# EAGLE library part DSPIC30F5011-20I/PTG (library Microchip_By_element14_Batch_1)
Digital Signal Controller
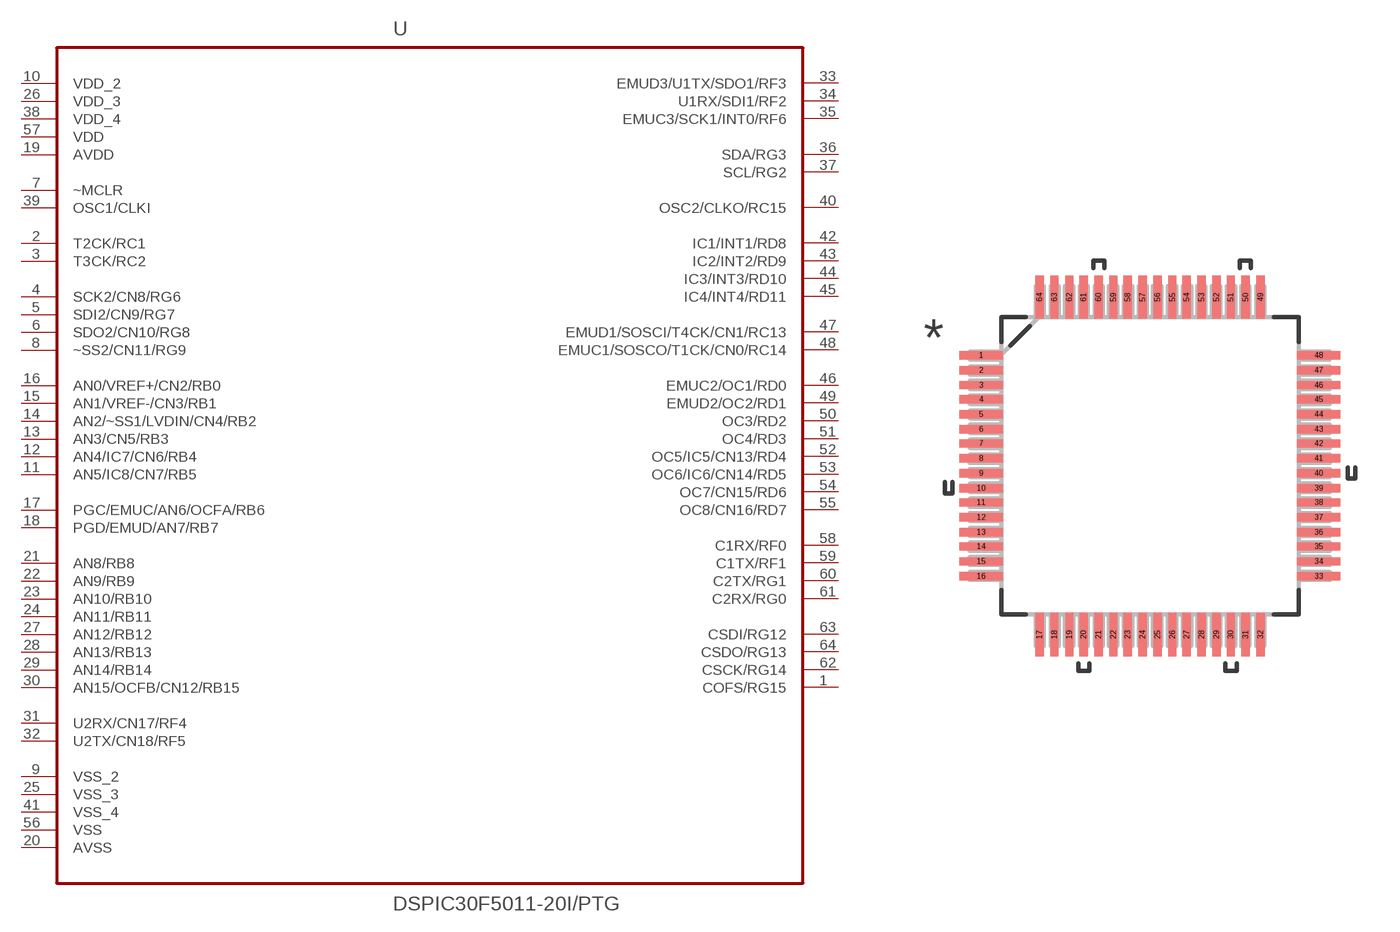
[diagram p308: symbol with the pads of QFP50P1200X1200X120-64N; footprint QFP50P1200X1200X120-64N]

Designator prefix -

## DSPIC30F5011-20I/PTG (MPN: DSPIC30F5011-20I/PTG; OC_FARNELL: 7711484; OC_NEWARK: 18J1120; PACKAGE: TQFP-64; SUPPLIER: Microchip)  [QFP50P1200X1200X120-64N]
1  COFS/RG15
2  T2CK/RC1
3  T3CK/RC2
4  SCK2/CN8/RG6
5  SDI2/CN9/RG7
6  SDO2/CN10/RG8
7  ~MCLR  in
8  ~SS2/CN11/RG9
9  VSS_2  pas
10  VDD_2  pwr
11  AN5/IC8/CN7/RB5
12  AN4/IC7/CN6/RB4
13  AN3/CN5/RB3
14  AN2/~SS1/LVDIN/CN4/RB2
15  AN1/VREF-/CN3/RB1
16  AN0/VREF+/CN2/RB0
17  PGC/EMUC/AN6/OCFA/RB6
18  PGD/EMUD/AN7/RB7
19  AVDD  pwr
20  AVSS  pas
21  AN8/RB8
22  AN9/RB9
23  AN10/RB10
24  AN11/RB11
25  VSS_3  pas
26  VDD_3  pwr
27  AN12/RB12
28  AN13/RB13
29  AN14/RB14
30  AN15/OCFB/CN12/RB15
31  U2RX/CN17/RF4
32  U2TX/CN18/RF5
33  EMUD3/U1TX/SDO1/RF3
34  U1RX/SDI1/RF2
35  EMUC3/SCK1/INT0/RF6
36  SDA/RG3
37  SCL/RG2
38  VDD_4  pwr
39  OSC1/CLKI  in
40  OSC2/CLKO/RC15
41  VSS_4  pas
42  IC1/INT1/RD8
43  IC2/INT2/RD9
44  IC3/INT3/RD10
45  IC4/INT4/RD11
46  EMUC2/OC1/RD0
47  EMUD1/SOSCI/T4CK/CN1/RC13
48  EMUC1/SOSCO/T1CK/CN0/RC14
49  EMUD2/OC2/RD1
50  OC3/RD2
51  OC4/RD3
52  OC5/IC5/CN13/RD4
53  OC6/IC6/CN14/RD5
54  OC7/CN15/RD6
55  OC8/CN16/RD7
56  VSS  pas
57  VDD  pwr
58  C1RX/RF0
59  C1TX/RF1
60  C2TX/RG1
61  C2RX/RG0
62  CSCK/RG14
63  CSDI/RG12
64  CSDO/RG13

## Footprint QFP50P1200X1200X120-64N (pad centres in mm)
smd 1.473 x 0.279: 1 -5.74,3.759; 2 -5.74,3.251; 3 -5.74,2.743; 4 -5.74,2.261; 5 -5.74,1.753; 6 -5.74,1.245; 7 -5.74,0.762; 8 -5.74,0.254; 9 -5.74,-0.254; 10 -5.74,-0.762; 11 -5.74,-1.245; 12 -5.74,-1.753; 13 -5.74,-2.261; 14 -5.74,-2.743; 15 -5.74,-3.251; 16 -5.74,-3.759; 33 5.74,-3.759; 34 5.74,-3.251; 35 5.74,-2.743; 36 5.74,-2.261; 37 5.74,-1.753; 38 5.74,-1.245; 39 5.74,-0.762; 40 5.74,-0.254; 41 5.74,0.254; 42 5.74,0.762; 43 5.74,1.245; 44 5.74,1.753; 45 5.74,2.261; 46 5.74,2.743; 47 5.74,3.251; 48 5.74,3.759
smd 0.279 x 1.473: 17 -3.759,-5.74; 18 -3.251,-5.74; 19 -2.743,-5.74; 20 -2.261,-5.74; 21 -1.753,-5.74; 22 -1.245,-5.74; 23 -0.762,-5.74; 24 -0.254,-5.74; 25 0.254,-5.74; 26 0.762,-5.74; 27 1.245,-5.74; 28 1.753,-5.74; 29 2.261,-5.74; 30 2.743,-5.74; 31 3.251,-5.74; 32 3.759,-5.74; 49 3.759,5.74; 50 3.251,5.74; 51 2.743,5.74; 52 2.261,5.74; 53 1.753,5.74; 54 1.245,5.74; 55 0.762,5.74; 56 0.254,5.74; 57 -0.254,5.74; 58 -0.762,5.74; 59 -1.245,5.74; 60 -1.753,5.74; 61 -2.261,5.74; 62 -2.743,5.74; 63 -3.251,5.74; 64 -3.759,5.74